# EAGLE library part MULTIPLEXER (library LPRD_RELAY)
Quadruple 2-line to 1-line data selector SN54HC157: https://www.digikey.com/product-detail/en/texas-instruments/SN74HC157N/296-1578-5-ND/277224
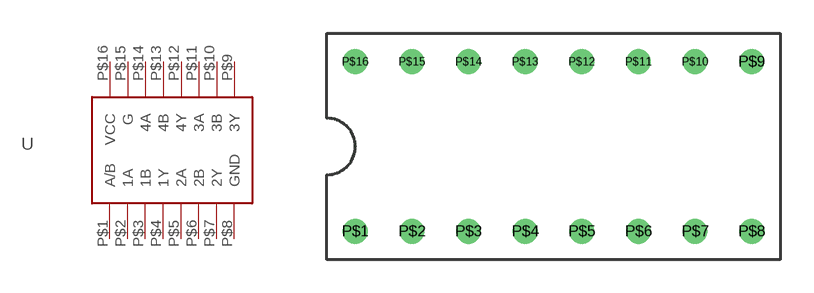
[diagram p0: symbol with the pads of SN74HC157; footprint SN74HC157]

Designator prefix -

## MULTIPLEXER  [SN74HC157]
P$1  A/B
P$2  1A
P$3  1B
P$4  1Y
P$5  2A
P$6  2B
P$7  2Y
P$8  GND
P$9  3Y
P$10  3B
P$11  3A
P$12  4Y
P$13  4B
P$14  4A
P$15  G
P$16  VCC

## Footprint SN74HC157 (pad centres in mm)
drill 0.6: P$1 -8.89,-3.81; P$2 -6.35,-3.81; P$3 -3.81,-3.81; P$4 -1.27,-3.81; P$5 1.27,-3.81; P$6 3.81,-3.81; P$7 6.35,-3.81; P$8 8.89,-3.81; P$9 8.89,3.81; P$10 6.35,3.81; P$11 3.81,3.81; P$12 1.27,3.81; P$13 -1.27,3.81; P$14 -3.81,3.81; P$15 -6.35,3.81; P$16 -8.89,3.81